# Altium schematic symbol library InverterComponents.SchLib: 1 symbol
Pins are listed as number, name and electrical type; pins without a type are passive.

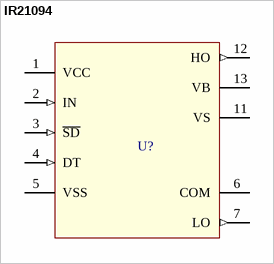
[diagram p0: symbol IR21094]

## IR21094
designator U?  (value not drawn)
Half bridge gate driver
pins: 1 VCC (power) "Low side and logic fixed supply", 2 IN (in) "Logic input for high and low side gate driver outputs (HO and LO), in phase with HO", 3 ~{SD} (in) "Logic input for shutdown", 4 DT (in) "Programmable dead-time lead", 5 VSS (power) "Logic Ground", 6 COM (power) "Low Side Return", 7 LO (out) "Low side gate drive output", 8 NC (hiz) hidden, 9 NC (hiz) hidden, 10 NC (hiz) hidden, 11 VS (power) "High side floating supply return", 12 HO (out) "High side gate drive output", 13 VB (power) "High side floating supply", 14 NC (hiz) hidden